# Altium integrated library FFC3B07-30-T.IntLib: 1 symbol
Pins are listed as number, name and electrical type; pins without a type are passive.

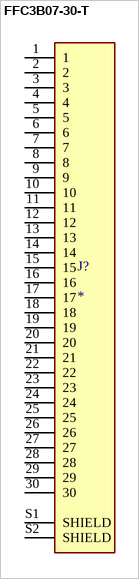
[diagram p0: symbol FFC3B07-30-T]

## FFC3B07-30-T
designator J?
FPC 1.0mm Pitch, Side entry, Top contact, SMT, Height 2.5mm, Slide type; MF: Global Connector Technology; MP: FFC3B07-30-T; Price: None; SnapEDA_Link: https://www.snapeda.com/parts/FFC3B07-30-T/Global%20Connector%20Technology/view-part/4223042/?ref=snap; Availability: Warning; Value: *; Purchase-URL: https://pricing.snapeda.com/search/part/FFC3B07-30-T/?ref=eda; Package: Package; Check_prices: https://www.snapeda.com/parts/FFC3B07-30-T/Global%20Connector%20Technology/view-part/4223042/?ref=eda
footprint GCT_FFC3B07-30-T
pins: 1, 2, 3, 4, 5, 6, 7, 8, 9, 10, 11, 12, 13, 14, 15, 16, 17, 18, 19, 20, 21, 22, 23, 24, 25, 26, 27, 28, 29, 30, S1 SHIELD, S2 SHIELD